# EAGLE library part AD8400AR1 (library AD8400AR1)
Digital Potentiometers
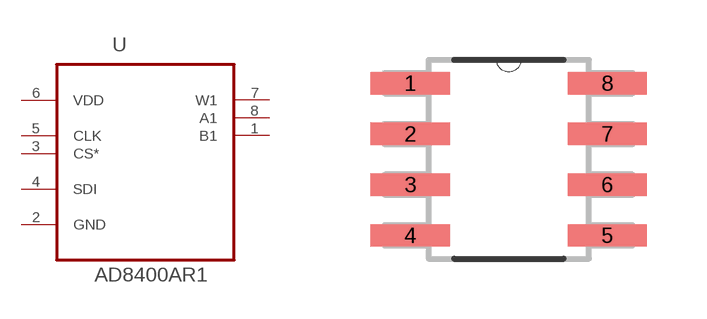
[diagram p0: symbol with the pads of SOIC127P600X175-8N; footprint SOIC127P600X175-8N]

Designator prefix U

## AD8400AR1 (AVAILABILITY: Good; DESCRIPTION: Digital Potentiometer 256POS 1kOhm Single 8-Pin SOIC N Tube; MF: Analog Devices; MP: AD8400ARZ1; PACKAGE: SOIC-8 Analog Devices; PRICE: 2.43 USD)  [SOIC127P600X175-8N]
1  B1  pas
2  GND  pas
3  CS*  in
4  SDI  in
5  CLK  in
6  VDD  pwr
7  W1  pas
8  A1  pas

## Footprint SOIC127P600X175-8N (pad centres in mm)
smd 1.981 x 0.559: 1 -2.464,1.905; 2 -2.464,0.635; 3 -2.464,-0.635; 4 -2.464,-1.905; 5 2.464,-1.905; 6 2.464,-0.635; 7 2.464,0.635; 8 2.464,1.905